# EAGLE library part MC14099BCPG (library ON Semiconductor_By_element14_Batch_1)
8-Bit Addressable Latches
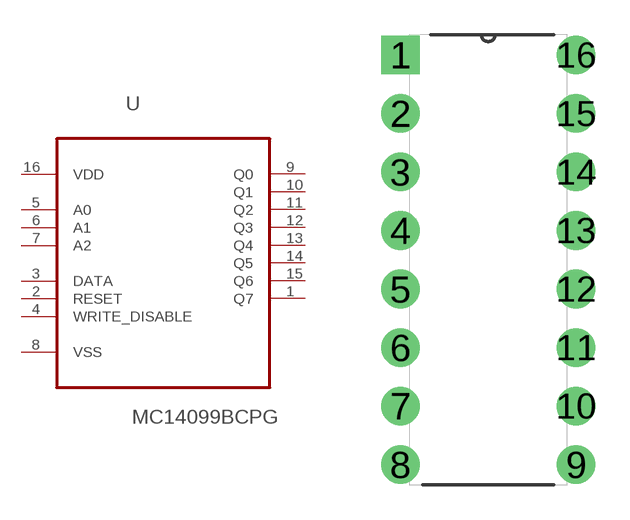
[diagram p267: symbol with the pads of DIP254P762X444-16; footprint DIP254P762X444-16]

Designator prefix U

## MC14099BCPG (MPN: MC14099BCPG; OC_FARNELL: 9665722; OC_NEWARK: 45J1093; P1I: o; PACKAGE: PDIP-16; SUPPLIER: On semiconductors)  [DIP254P762X444-16]
1  Q7  out
2  RESET  in
3  DATA  in
4  WRITE_DISABLE  in
5  A0  in
6  A1  in
7  A2  in
8  VSS  pwr
9  Q0  out
10  Q1  out
11  Q2  out
12  Q3  out
13  Q4  out
14  Q5  out
15  Q6  out
16  VDD  pwr

## Footprint DIP254P762X444-16 (pad centres in mm)
drill 1.118 square: 1 -7.62,17.78
drill 1.118: 2 -7.62,15.24; 3 -7.62,12.7; 4 -7.62,10.16; 5 -7.62,7.62; 6 -7.62,5.08; 7 -7.62,2.54; 8 -7.62,0; 9 0,0; 10 0,2.54; 11 0,5.08; 12 0,7.62; 13 0,10.16; 14 0,12.7; 15 0,15.24; 16 0,17.78